# Altium footprint library Passive.PcbLib: 74 footprints (part 5 of 5)
Each footprint in its own frame and in the unit in brackets; x right, y up, seen from the top. Pads: shape width x height; smd on the part's side, far side on the other; paste and mask are expansions set on the pad; w line width, h text height; cw(c..) or ccw(c..) is an arc to the next point about the centre after c.
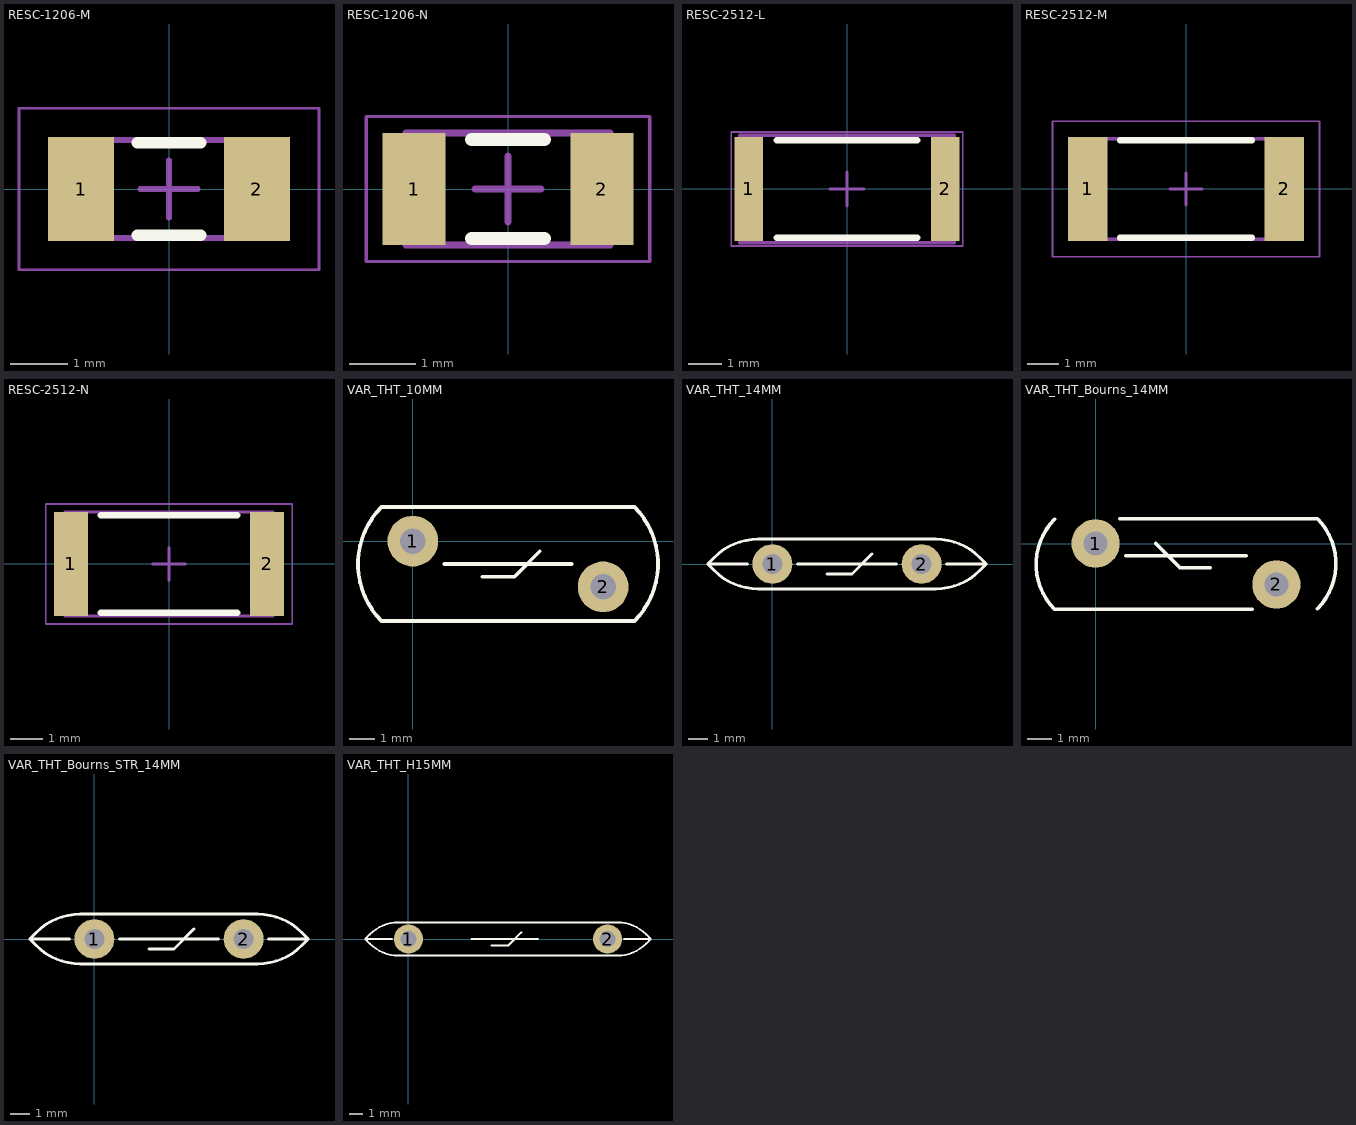
[diagram p4: the footprints below, top view; thin cyan lines are the x and y axes]

## RESC-1206-M [mm] "Chip Resistor, 2-Leads, Body 3.05x1.60mm, IPC Low Density"
height 0.6
pads (2):
  rect 1.15x1.8 smd: 1(-1.525,0) 2(1.525,0)
Top Overlay:
  lines w0.2: -0.55,-0.8 0.55,-0.8 ; -0.55,0.8 0.55,0.8
Mechanical 13:
  lines w0.1: -1.55,-0.85 -1.55,0.85 1.55,0.85 1.55,-0.85 -1.55,-0.85
Mechanical 15:
  lines w0.05: -2.6,-1.4 -2.6,1.4 2.6,1.4 2.6,-1.4 -2.6,-1.4
  lines w0.1: -0.5,0 0.5,0 ; 0,-0.5 0,0.5
3D body "RESC-1206-M.step": height 0.6, standoff 0, extent -1.55,-0.85 1.55,0.85

## RESC-1206-N [mm] "Chip Resistor, 2-Leads, Body 3.05x1.60mm, IPC Medium Density"
height 0.6
pads (2):
  rect 0.95x1.7 smd: 1(-1.425,0) 2(1.425,0)
Top Overlay:
  lines w0.2: -0.55,-0.75 0.55,-0.75 ; -0.55,0.75 0.55,0.75
Mechanical 13:
  lines w0.1: -1.55,-0.85 -1.55,0.85 1.55,0.85 1.55,-0.85 -1.55,-0.85
Mechanical 15:
  lines w0.05: -2.15,-1.1 -2.15,1.1 2.15,1.1 2.15,-1.1 -2.15,-1.1
  lines w0.1: -0.5,0 0.5,0 ; 0,-0.5 0,0.5
3D body "RESC-1206-N.step": height 0.6, standoff 0, extent -1.55,-0.85 1.55,0.85

## RESC-2512-L [mm] "Chip Resistor, 2-Leads, Body 6.35x3.15mm, IPC High Density"
height 0.6
pads (2):
  rect 0.85x3.1 smd: 1(-2.925,0) 2(2.925,0)
Top Overlay:
  lines w0.2: -2.1,-1.45 2.1,-1.45 ; -2.1,1.45 2.1,1.45
Mechanical 13:
  lines w0.1: -3.2,-1.6 -3.2,1.6 3.2,1.6 3.2,-1.6 -3.2,-1.6
Mechanical 15:
  lines w0.05: -3.45,-1.7 -3.45,1.7 3.45,1.7 3.45,-1.7 -3.45,-1.7
  lines w0.1: -0.5,0 0.5,0 ; 0,-0.5 0,0.5
3D body "RESC-2512-L.step": height 0.6, standoff 0, extent -3.2,-1.6 3.2,1.6

## RESC-2512-M [mm] "Chip Resistor, 2-Leads, Body 6.35x3.15mm, IPC Low Density"
height 0.6
pads (2):
  rect 1.25x3.3 smd: 1(-3.125,0) 2(3.125,0)
Top Overlay:
  lines w0.2: -2.1,-1.55 2.1,-1.55 ; -2.1,1.55 2.1,1.55
Mechanical 13:
  lines w0.1: -3.2,-1.6 3.2,-1.6 3.2,1.6 -3.2,1.6 -3.2,-1.6
Mechanical 15:
  lines w0.05: -4.25,-2.15 4.25,-2.15 4.25,2.15 -4.25,2.15 -4.25,-2.15
  lines w0.1: -0.5,0 0.5,0 ; 0,-0.5 0,0.5
3D body "RESC-2512-M.step": height 0.6, standoff 0, extent -3.2,-1.6 3.2,1.6

## RESC-2512-N [mm] "Chip Resistor, 2-Leads, Body 6.35x3.15mm, IPC Medium Density"
height 0.6
pads (2):
  rect 1.05x3.2 smd: 1(-3.025,0) 2(3.025,0)
Top Overlay:
  lines w0.2: -2.1,-1.5 2.1,-1.5 ; -2.1,1.5 2.1,1.5
Mechanical 13:
  lines w0.1: -3.2,-1.6 -3.2,1.6 3.2,1.6 3.2,-1.6 -3.2,-1.6
Mechanical 15:
  lines w0.05: -3.8,-1.85 -3.8,1.85 3.8,1.85 3.8,-1.85 -3.8,-1.85
  lines w0.1: -0.5,0 0.5,0 ; 0,-0.5 0,0.5
3D body "RESC-2512-N.step": height 0.6, standoff 0, extent -3.2,-1.6 3.2,1.6

## VAR_THT_10MM [mm]
height 10
pads (2):
  round 2 hole 1: 1(0,0) 2(7.5,-1.8)
Top Overlay:
  lines w0.15: 1.25,-0.9 6.25,-0.9 ; 2.75,-1.4 4,-1.4 5,-0.4 ; -1.23,-3.15 cw(c1.02,-0.9) -1.23,1.35 8.73,1.35 cw(c6.48,-0.9) 8.73,-3.15 -1.23,-3.15
3D body "B72210S0251K101_TH420.step": height 14.5, standoff -3, extent -2.2,-3.3 9.8,1.5

## VAR_THT_14MM [mm]
height 14
pads (2):
  round 2 hole 1: 1(0,0) 2(7.5,0)
Top Overlay:
  lines w0.15: -1.25,0 -3.25,0 ; 1.25,0 6.25,0 ; 2.75,-0.5 4,-0.5 5,0.5 ; 8.75,0 10.75,0 ; -3.25,0 -2.898,-0.352 ccw(c-0.73,1.816) -0.73,-1.25 8.23,-1.25 ccw(c8.23,1.816) 10.398,-0.352 10.75,0 ; -3.25,0 -2.898,0.352 cw(c-0.73,-1.816) -0.73,1.25 8.23,1.25 cw(c8.23,-1.816) 10.398,0.352 10.75,0
3D body "vdrs14bke.step": height 21.5, standoff -3, extent -4.5,-4 12,4

## VAR_THT_Bourns_14MM [mm]
height 14
pads (2):
  round 2 hole 1: 1(0,0) 2(7.5,-1.7)
Top Overlay:
  lines w0.15: -1.7,1 ccw(c0.163,-0.863) -1.7,-2.727 6.5,-2.727 ; 1,1.027 9.2,1.027 cw(c7.337,-0.837) 9.2,-2.7 ; 1.25,-0.5 6.25,-0.5 ; 2.5,0 3.5,-1 4.75,-1
3D body "B72210S0251K101_TH420.step": height 14.5, standoff -3, extent -2.25,-3.25 9.75,1.55

## VAR_THT_Bourns_STR_14MM [mm]
height 14
pads (2):
  round 2 hole 1: 1(0,0) 2(7.5,0)
Top Overlay:
  lines w0.15: -1.25,0 -3.25,0 ; 1.25,0 6.25,0 ; 2.75,-0.5 4,-0.5 5,0.5 ; 8.75,0 10.75,0 ; -3.25,0 -2.898,-0.352 ccw(c-0.73,1.816) -0.73,-1.25 8.23,-1.25 ccw(c8.23,1.816) 10.398,-0.352 10.75,0 ; -3.25,0 -2.898,0.352 cw(c-0.73,-1.816) -0.73,1.25 8.23,1.25 cw(c8.23,-1.816) 10.398,0.352 10.75,0
3D body "mov-14d181k.stp": height 21.25, standoff -18.75, extent -4.5,-1.8 12,1.8

## VAR_THT_H15MM [mm]
height 14
pads (2):
  round 2.2 hole 1.2: 1(0,0) 2(15,0)
Top Overlay:
  lines w0.15: -1.25,0 -3.25,0 ; 4.75,0 9.75,0 ; 6.25,-0.5 7.5,-0.5 8.5,0.5 ; 16.25,0 18.25,0 ; -3.25,0 -2.898,0.352 cw(c-0.73,-1.816) -0.73,1.25 15.73,1.25 cw(c15.73,-1.816) 17.898,0.352 18.25,0 ; -3.25,0 -2.898,-0.352 ccw(c-0.73,1.816) -0.73,-1.25 15.73,-1.25 ccw(c15.73,1.816) 17.898,-0.352 18.25,0